# Altium footprint library PB0042.PcbLib: 39 footprints (part 1 of 3)
Each footprint in its own frame and in the unit in brackets; x right, y up, seen from the top. Pads: shape width x height; smd on the part's side, far side on the other; paste and mask are expansions set on the pad; w line width, h text height; cw(c..) or ccw(c..) is an arc to the next point about the centre after c.
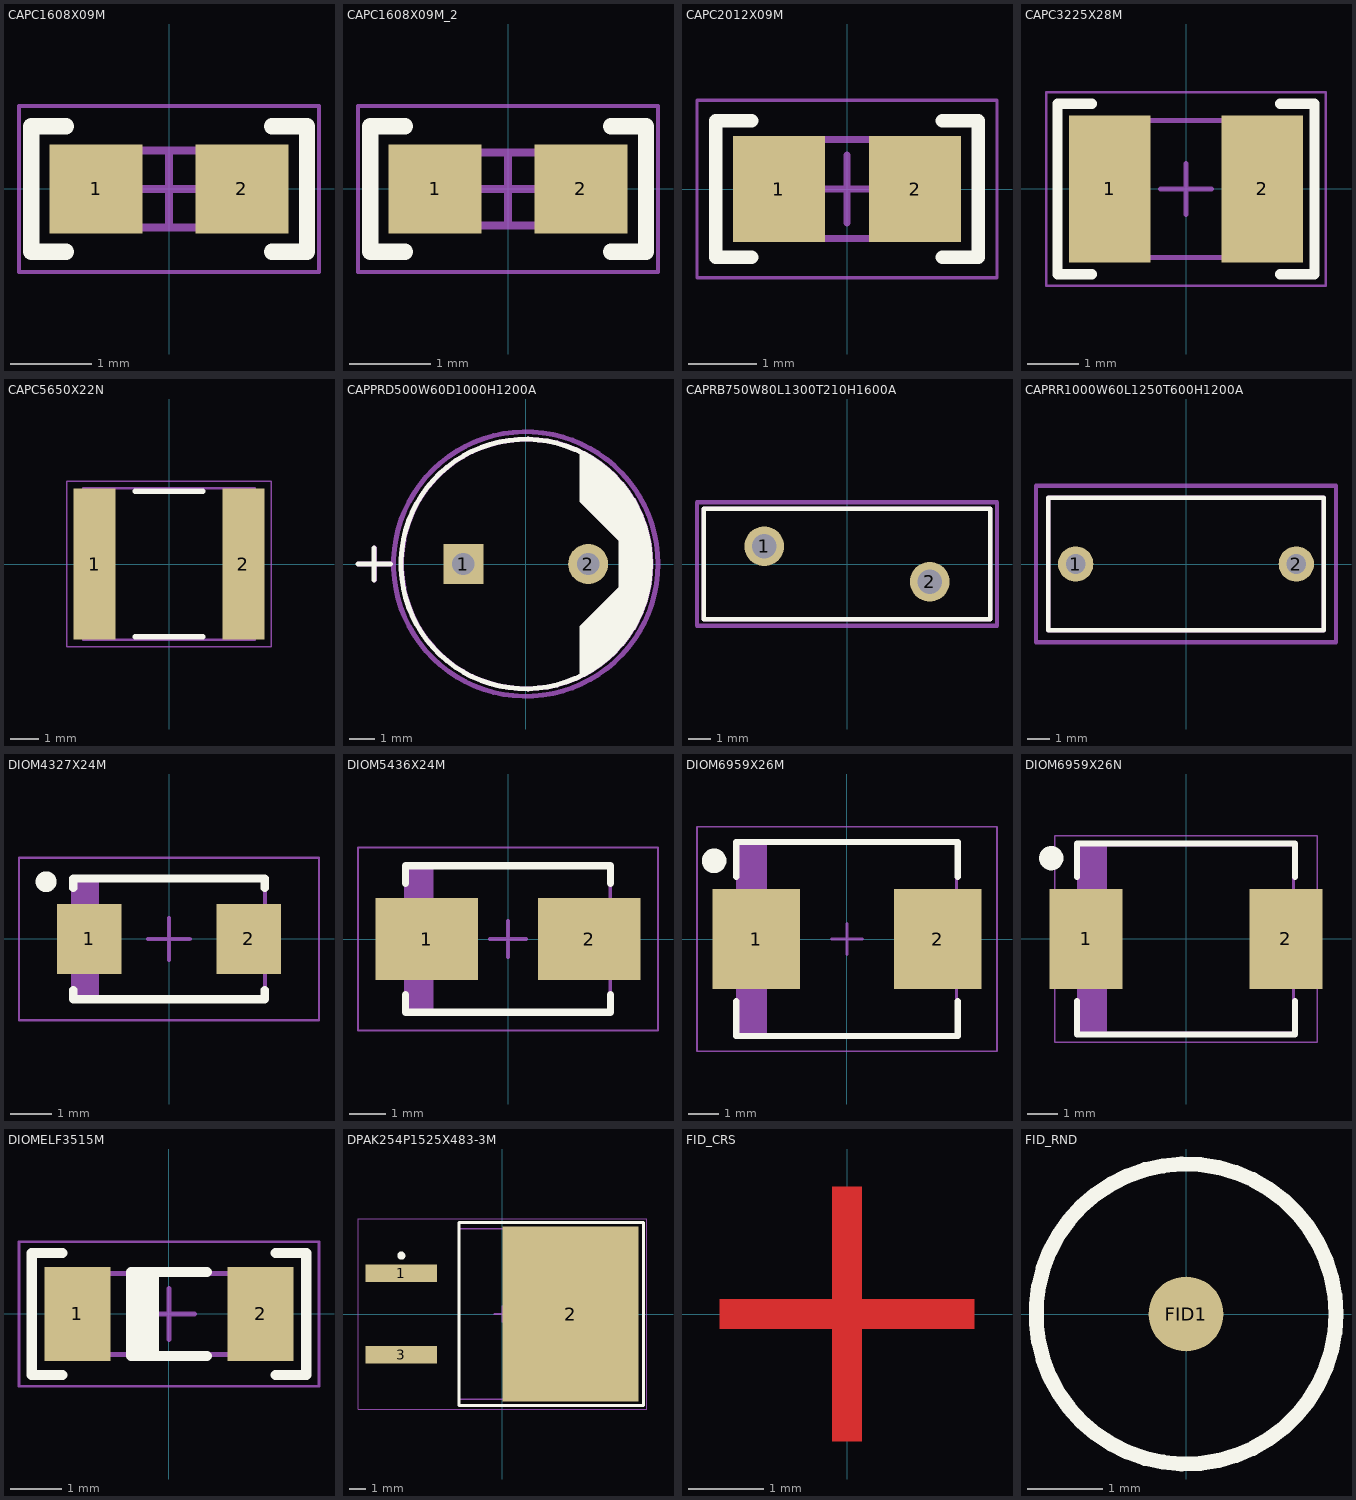
[diagram p0: the footprints below, top view; thin cyan lines are the x and y axes]

## CAPC1608X09M [mm]
pads (2):
  rect 1.15x1.1 smd: 1(-0.9,0) 2(0.9,0)
Top Overlay:
  lines w0.2: -1.269,-0.775 -1.7,-0.775 -1.7,0.774 -1.269,0.774 ; 1.27,-0.774 1.701,-0.774 1.701,0.775 1.27,0.775
Top Assembly:
  lines w0.1: -0.875,-0.475 0.875,-0.475 0.875,0.475 -0.875,0.475 -0.875,-0.475
  text ".Designator" at -1.1,-1.3 h1.52
Top Courtyard:
  lines w0.05: -1.85,-1.025 1.85,-1.025 1.85,1.025 -1.85,1.025 -1.85,-1.025
  lines w0.1: -0.475,0 0.475,0 ; 0,-0.475 0,0.475
3D body: height 0.87, standoff 0, extent -0.8,-0.381 0.8,0.419

## CAPC1608X09M_2 [mm]
pads (2):
  rect 1.15x1.1 smd: 1(-0.9,0) 2(0.9,0)
Top Overlay:
  lines w0.2: -1.269,-0.775 -1.7,-0.775 -1.7,0.774 -1.269,0.774 ; 1.27,-0.774 1.701,-0.774 1.701,0.775 1.27,0.775
Top Assembly:
  lines w0.1: -0.85,-0.45 0.85,-0.45 0.85,0.45 -0.85,0.45 -0.85,-0.45
  text ".Designator" at 1.3,-0.4 h1.52
Top Courtyard:
  lines w0.05: -1.85,-1.025 1.85,-1.025 1.85,1.025 -1.85,1.025 -1.85,-1.025
  lines w0.1: -0.45,0 0.45,0 ; 0,-0.45 0,0.45
3D body "CAPC1608X09M.step": height 0.9, standoff 0, extent -0.85,-0.45 0.85,0.45

## CAPC2012X09M [mm]
pads (2):
  rect 1.35x1.55 smd: 1(-1,0) 2(1,0)
Top Overlay:
  lines w0.2: -1.4,-1 -1.925,-1 -1.925,1 -1.4,1 ; 1.4,-1 1.925,-1 1.925,1 1.4,1
Top Assembly:
  lines w0.1: -1.105,-0.725 1.105,-0.725 1.105,0.725 -1.105,0.725 -1.105,-0.725
  text ".Designator" at 1.3,-0.4 h1.52
Top Courtyard:
  lines w0.05: -2.2,-1.3 2.2,-1.3 2.2,1.3 -2.2,1.3 -2.2,-1.3
  lines w0.1: -0.5,0 0.5,0 ; 0,-0.5 0,0.5
3D body "CAPC2012X09M.step": height 0.94, standoff 0, extent -1.105,-0.725 1.105,0.725

## CAPC3225X28M [mm]
pads (2):
  rect 1.6x2.9 smd: 1(-1.5,0) 2(1.5,0)
Top Overlay:
  lines w0.2: -1.85,-1.675 -2.525,-1.675 -2.525,1.675 -1.85,1.675 ; 1.85,-1.675 2.525,-1.675 2.525,1.675 1.85,1.675
Top Assembly:
  lines w0.1: -1.7,-1.35 1.7,-1.35 1.7,1.35 -1.7,1.35 -1.7,-1.35
  text ".Designator" at 0.5,-0.8 h1.52
Top Courtyard:
  lines w0.05: -2.75,-1.9 2.75,-1.9 2.75,1.9 -2.75,1.9 -2.75,-1.9
  lines w0.1: -0.5,0 0.5,0 ; 0,-0.5 0,0.5
3D body "CAPC3225X28M.step": height 2.79, standoff 0, extent -1.7,-1.35 1.7,1.35

## CAPC5650X22N [mm]
pads (2):
  rect 1.5x5.4 smd: 1(-2.65,0) 2(2.65,0)
Top Overlay:
  lines w0.2: -1.2,-2.6 1.2,-2.6 ; -1.2,2.6 1.2,2.6
Top Assembly:
  lines w0.1: -3.05,-2.7 3.05,-2.7 3.05,2.7 -3.05,2.7 -3.05,-2.7
  text "'.Designator'" at -0.4,1.1 h1.52
Top Courtyard:
  lines w0.05: -3.65,-2.95 3.65,-2.95 3.65,2.95 -3.65,2.95 -3.65,-2.95
3D body "CAPC5750X22N.step": height 2.2, standoff 0, extent -3.05,-2.7 3.05,2.7

## CAPPRD500W60D1000H1200A [mm]
pads (2):
  rect 1.6x1.6 hole 0.9: 1(-2.5,0)
  round 1.6 hole 0.9: 2(2.5,0)
Top Overlay:
  drawing of 103 lines, arcs and shapes, not listed
Top Assembly:
  drawing of 103 lines, arcs and shapes, not listed
  text ".Designator" at 0.239,-0.8 h1.52
Top Courtyard:
  circle w0.2: c0,0 r5.3
3D body "Capacitor_Radial_10x12x5.step": height 13.11, standoff -2.29, extent -5.12,-5.078 5.04,5.079

## CAPRB750W80L1300T210H1600A [mm]
pads (2):
  round 1.8 hole 1.1: 1(-3.75,0.8) 2(3.75,-0.8)
Top Overlay:
  lines w0.2: -6.5,-2.5 6.5,-2.5 6.5,2.5 -6.5,2.5 -6.5,-2.5
Top Assembly:
  lines w0.2: -6.5,-2.5 6.5,-2.5 6.5,2.5 -6.5,2.5 -6.5,-2.5
  text ".Designator" at -0.95,-0.489 h1.52
Top Courtyard:
  lines w0.2: -6.8,-2.8 6.8,-2.8 6.8,2.8 -6.8,2.8 -6.8,-2.8
3D body: height 16, standoff -3, extent -6.5,-2.5 6.5,2.5

## CAPRR1000W60L1250T600H1200A [mm]
pads (2):
  round 1.6 hole 0.9: 1(-5,0) 2(5,0)
Top Overlay:
  lines w0.2: -6.25,-3 6.25,-3 6.25,3 -6.25,3 -6.25,-3
Top Assembly:
  lines w0.2: -6.25,-3 6.25,-3 6.25,3 -6.25,3 -6.25,-3
  text ".Designator" at 0.439,-0.7 h1.52
Top Courtyard:
  lines w0.2: -6.8,-3.55 6.8,-3.55 6.8,3.55 -6.8,3.55 -6.8,-3.55
3D body: height 12, standoff 0.1, extent -6.35,-3.1 6.35,3.1

## DIOM4327X24M [mm]
pads (2):
  rect 1.555x1.67 smd: 1(-1.915,0) 2(1.915,0)
Top Overlay:
  circle w0.25: c-2.95,1.375 r0.125
  lines w0.2: -2.3,-1.225 -2.3,-1.45 2.3,-1.45 2.3,-1.225 ; -2.3,1.225 -2.3,1.45 2.3,1.45 2.3,1.225
Top Assembly:
  rectangle: -2.3,-1.45 -1.681,1.45
  lines w0.1: -2.3,-1.45 2.3,-1.45 2.3,1.45 -2.3,1.45 -2.3,-1.45
  text ".Designator" at 0.589,-0.8 h1.52
Top Courtyard:
  lines w0.05: -3.6,-1.95 3.6,-1.95 3.6,1.95 -3.6,1.95 -3.6,-1.95
  lines w0.1: -0.5,0 0.5,0 ; 0,-0.5 0,0.5
3D body "DIOM4327X24M.step": height 2.44, standoff 0, extent -2.52,-1.45 2.52,1.45

## DIOM5436X24M [mm]
pads (2):
  rect 2.8x2.25 smd: 1(-2.225,0) 2(2.225,0)
Top Overlay:
  lines w0.2: -2.8,-1.525 -2.8,-2 2.8,-2 2.8,-1.525 ; -2.8,1.525 -2.8,2 2.8,2 2.8,1.525
Top Assembly:
  rectangle: -2.795,-1.97 -2.043,1.97
  lines w0.1: -2.795,-1.97 -2.795,1.97 2.795,1.97 2.795,-1.97 -2.795,-1.97
  text ".Designator" at 0.489,-0.8 h1.52
Top Courtyard:
  lines w0.05: -4.1,-2.5 -4.1,2.5 4.1,2.5 4.1,-2.5 -4.1,-2.5
  lines w0.1: -0.5,0 0.5,0 ; 0,-0.5 0,0.5
3D body "DIOM5436X24M.step": height 2.44, standoff 0, extent -3.015,-1.97 3.015,1.97

## DIOM6959X26M [mm]
pads (2):
  rect 2.85x3.25 smd: 1(-2.95,0) 2(2.95,0)
Top Overlay:
  circle w0.4: c-4.318,2.54 r0.2
  lines w0.2: -3.6,-2.025 -3.6,-3.15 3.6,-3.15 3.6,-2.025 ; -3.6,2.025 -3.6,3.15 3.6,3.15 3.6,2.025
Top Assembly:
  rectangle: -3.555,-3.11 -2.599,3.11
  lines w0.1: -3.555,-3.11 -3.555,3.11 3.555,3.11 3.555,-3.11 -3.555,-3.11
  text ".Designator" at 0.439,-0.85 h1.52
Top Courtyard:
  lines w0.05: -4.875,-3.65 -4.875,3.65 4.875,3.65 4.875,-3.65 -4.875,-3.65
  lines w0.1: -0.5,0 0.5,0 ; 0,-0.5 0,0.5
3D body "DIOM6959X26M.step": height 2.62, standoff 0, extent -3.775,-3.11 3.775,3.11

## DIOM6959X26N [mm]
pads (2):
  rect 2.4x3.3 smd: 1(-3.3,0) 2(3.3,0)
Top Overlay:
  circle w0.4: c-4.445,2.667 r0.2
  lines w0.2: -3.6,-2.05 -3.6,-3.15 3.6,-3.15 3.6,-2.05 ; -3.6,2.05 -3.6,3.15 3.6,3.15 3.6,2.05
Top Assembly:
  rectangle: -3.555,-3.11 -2.599,3.11
  lines w0.1: -3.555,-3.11 -3.555,3.11 3.555,3.11 3.555,-3.11 -3.555,-3.11
  text "'.Designator'" at 0.339,-0.85 h1.52
Top Courtyard:
  lines w0.05: -4.325,-3.4 -4.325,3.4 4.325,3.4 4.325,-3.4 -4.325,-3.4
3D body "DIOM6959X26N.step": height 2.62, standoff 0, extent -3.775,-3.11 3.775,3.11

## DIOMELF3515M [mm]
pads (2):
  rect 1.3x1.85 smd: 1(-1.8,0) 2(1.8,0)
Top Overlay:
  rectangle: -0.75,-0.825 -0.2,0.825
  lines w0.2: -2.1,-1.2 -2.7,-1.2 -2.7,1.2 -2.1,1.2 ; 0.75,-0.825 -0.75,-0.825 -0.75,0.825 0.75,0.825 ; 2.1,-1.2 2.7,-1.2 2.7,1.2 2.1,1.2
Top Assembly:
  lines w0.1: -1.85,-0.8 1.85,-0.8 1.85,0.8 -1.85,0.8 -1.85,-0.8
  text ".Designator" at -1.25,-0.439 h1.52
Top Courtyard:
  lines w0.05: -2.95,-1.425 2.95,-1.425 2.95,1.425 -2.95,1.425 -2.95,-1.425
  lines w0.1: -0.5,0 0.5,0 ; 0,-0.5 0,0.5
3D body "DIOMELF3515M.step": height 1.53, standoff 0, extent -1.75,-0.762 1.75,0.762

## DPAK254P1525X483-3M [mm]
pads (3):
  rect 4.45x1.1 smd: 1(-6.3,2.54) 3(-6.3,-2.54)
  rect 8.5x10.9 smd: 2(4.25,0)
Top Overlay:
  circle w0.25: c-6.3,3.64 r0.125
  lines w0.2: -2.7,-5.7 -2.7,5.7 8.8,5.7 8.8,-5.7 -2.7,-5.7
Top Assembly:
  lines w0.1: -2.7,-5.325 -2.7,5.325 6.05,5.325 6.05,-5.325 -2.7,-5.325
  text ".Designator" at 0.8,-0.239 h1.52
Top Courtyard:
  lines w0.05: -9,-5.95 -9,5.95 9,5.95 9,-5.95 -9,-5.95
  lines w0.1: -0.5,0 0.5,0 ; 0,-0.5 0,0.5
3D body "TO228P970-3N.step": height 4.83, standoff 0, extent -7.27,-5.335 7.975,5.335

## FID_CRS [mm]
Top Layer:
  rectangle: -1.7,-0.2 1.7,0.2
  region: 0.2,-1.7 0.2,1.7 -0.2,1.7 -0.2,-1.7
Top Paste:
  region: 0.2,-1.7 0.2,1.7 -0.2,1.7 -0.2,-1.7
  region: 1.7,0.2 -1.7,0.2 -1.7,-0.2 1.7,-0.2
Top Solder:
  rectangle: -2,-2 2,2

## FID_RND [mm]
pads (1):
  round 1 smd paste-1 mask+1.5: FID1(0,0)
Top Overlay:
  circle w0.2: c0,0 r2